# Altium footprint library CAMERON.PcbLib: 58 footprints (part 1 of 4)
Each footprint in its own frame and in the unit in brackets; x right, y up, seen from the top. Pads: shape width x height; smd on the part's side, far side on the other; paste and mask are expansions set on the pad; w line width, h text height; cw(c..) or ccw(c..) is an arc to the next point about the centre after c.
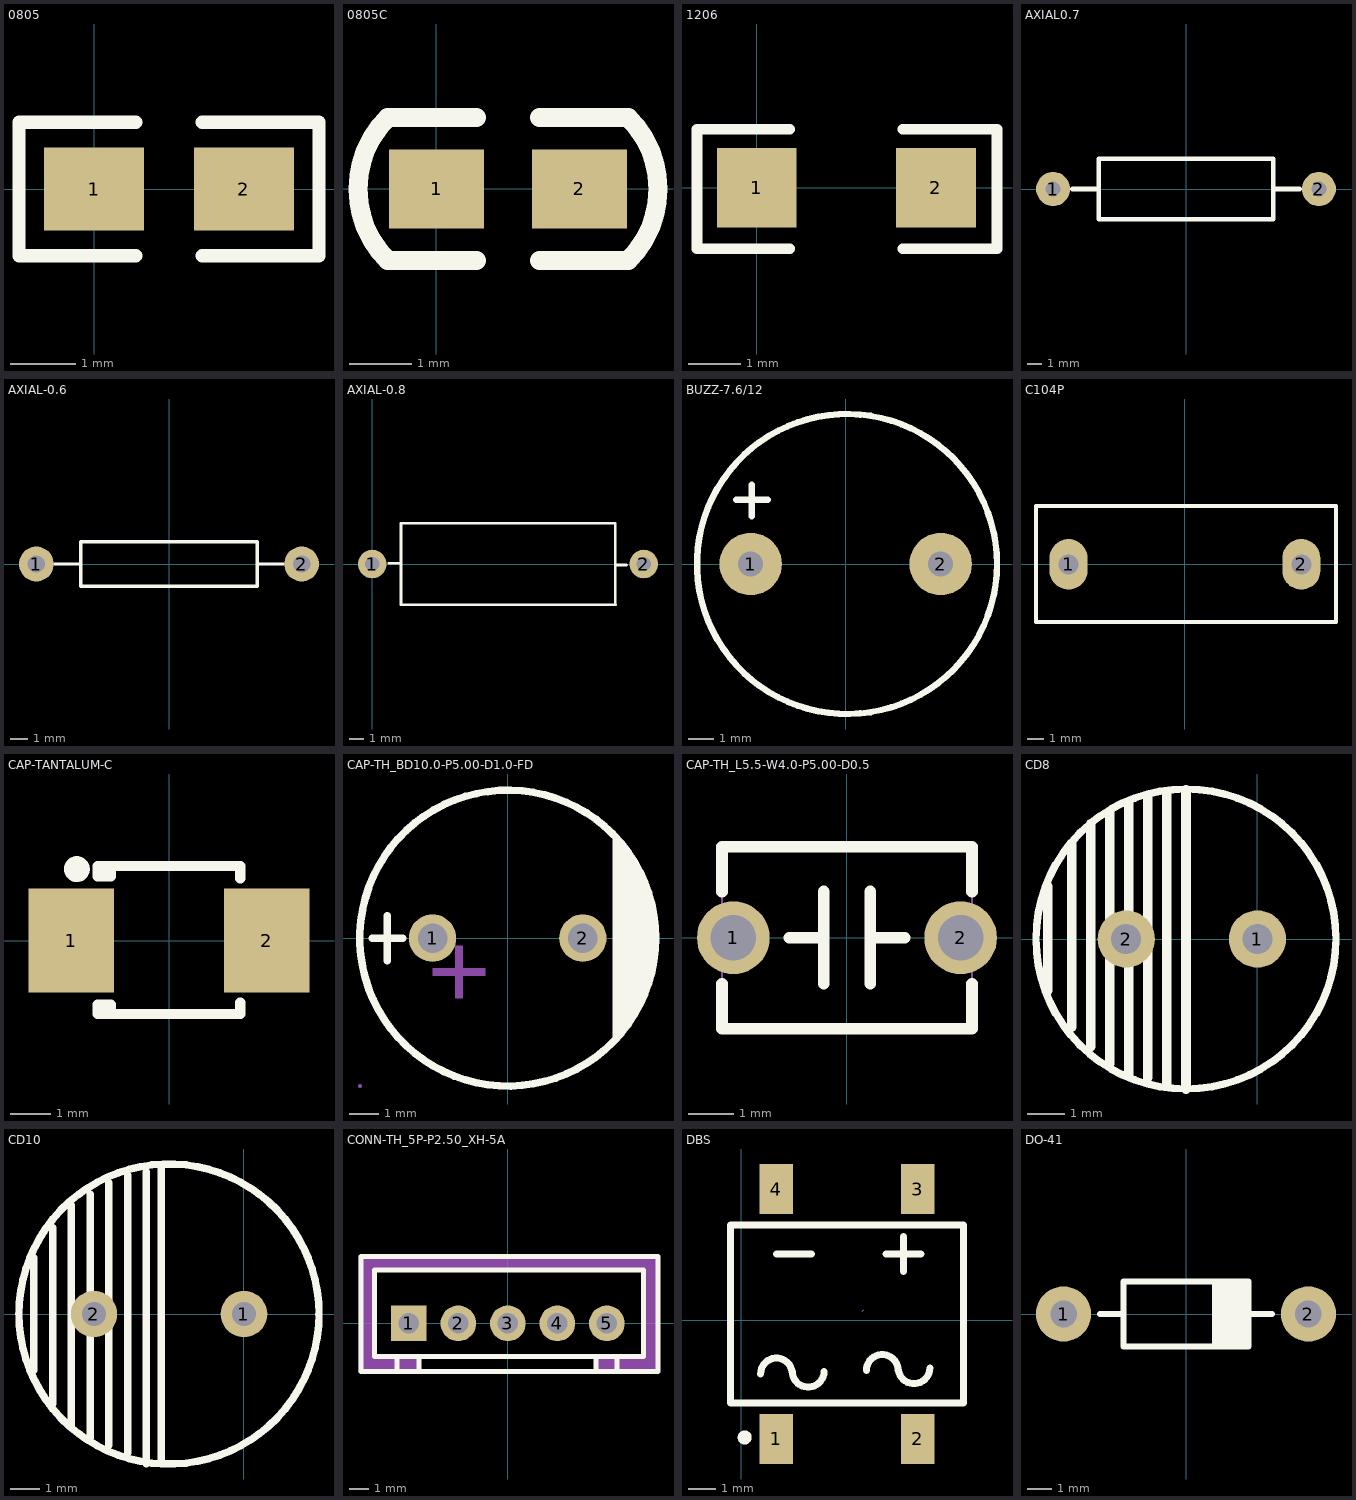
[diagram p0: the footprints below, top view; thin cyan lines are the x and y axes]

## 0805 [mil]
pads (2):
  rect 60x50 smd: 1(0,0) 2(90,0)
Top Overlay:
  lines w8: 25,-40 -45,-40 -45,40 25,40 ; 65,-40 135,-40 135,40 65,40

## 0805C [mil]
pads (2):
  rect 60x50 smd: 1(0.16,0) 2(90.16,0)
Top Overlay:
  lines w12: 25.16,-45 -30.84,-45 cw(c14.16,0) -30.84,45 25.16,45 ; 65.16,-45 121.16,-45 ccw(c76.16,0) 121.16,45 65.16,45

## 1206 [mil]
pads (2):
  rect 60x60 smd: 1(0,0) 2(135,0)
Top Overlay:
  lines w8: 25,-46 -45,-46 -45,44 25,44 ; 110,-46 181,-46 181,44 110,44

## AXIAL0.7 [mil]
pads (2):
  round 90 hole 39.37: 1(-350,0) 2(350,0)
Top Overlay:
  lines w12: -300,0 -230,0 ; 230,0 300,0 ; -230,-80 230,-80 230,80 -230,80 -230,-80

## AXIAL-0.6 [mm]
height 2.54
pads (2):
  round 2 hole 1: 1(-7.62,0) 2(7.62,0)
Top Overlay:
  lines w0.2: -6.604,0 -5.08,0 ; 5.08,0 6.604,0 ; -5.08,-1.27 -5.08,1.27 5.08,1.27 5.08,-1.27 -5.08,-1.27

## AXIAL-0.8 [mm]
pads (2):
  round 2 hole 1: 1(0,0) 2(19,0)
Top Overlay:
  lines w0.2: 1.17,0.056 1.932,0.056 ; 17.005,-2.855 17.005,2.86 2.019,2.86 2.019,-2.855 17.019,-2.855 ; 17.045,-0.071 17.807,-0.071

## BUZZ-7.6/12 [mm]
height 7.5
pads (2):
  round 2.5 hole 1: 1(-3.8,0) 2(3.8,0)
Top Overlay:
  circle w0.254: c0.051,0 r6
  lines w0.254: -4.38,2.57 -3.12,2.57 ; -3.76,1.91 -3.76,3.17

## C104P [mm]
pads (2):
  oval 2.286x3.048 hole 1.2: 1(-7,0) 2(7,0)
Top Overlay:
  lines w0.254: -8.96,3.5 -8.96,-3.465 9.086,-3.465 9.086,3.5 ; -8.96,3.505 9.086,3.505

## CAP-TANTALUM-C [mm]
height 1.9
pads (2):
  rect 2.1x2.56 smd: 1(-2.4,0) 2(2.4,0)
Top Overlay:
  circle w0.381: c-2.261,1.753 r0.127
  lines w0.254: -1.6,-1.575 -1.75,-1.725 -1.75,-1.803 ; -1.6,1.575 -1.6,1.6 ; -1.422,-1.753 -1.422,-1.575 -1.75,-1.575 -1.75,-1.803 ; -1.422,1.702 -1.422,1.575 -1.75,1.575 -1.75,1.829 1.75,1.829 1.75,1.524 ; 1.75,-1.524 1.75,-1.803 -1.75,-1.803

## CAP-TH_BD10.0-P5.00-D1.0-FD [mm]
pads (2):
  round 1.6 hole 1: 1(-2.54,0) 2(2.54,0)
Top Overlay:
  circle w0.254: c0,0 r5
  region: 3.556,3.556 3.556,-3.556 4.318,-2.54 4.826,-1.016 5.08,0.508 4.826,1.524
  lines w0.254: -4.572,0 -3.556,0 ; -4.064,-0.762 -4.064,0.762
Mechanical 6:
  region: -2.54,-1.016 -0.762,-1.016 -0.762,-1.27 -2.54,-1.27
  region: -1.778,-0.762 -1.778,-2.032 -1.524,-2.032 -1.524,-0.254 -1.778,-0.254
Mechanical 15:
  region: -4.94,-5 -4.94,-4.975 -4.975,-4.94 -5.025,-4.94 -5.06,-4.975 -5.06,-5 -5.06,-5.025 -5.025,-5.06 -4.975,-5.06 -4.94,-5.025 -4.94,-5
  region: 2.84,0 2.839,0.059 2.792,0.167 2.708,0.25 2.599,0.294 2.481,0.294 2.372,0.25 2.288,0.167 2.241,0.059 2.24,0 2.241,-0.059 2.288,-0.167 2.372,-0.25 2.481,-0.294 2.599,-0.294 2.708,-0.25 2.792,-0.167 2.839,-0.059 2.84,0
  region: -2.24,0 -2.241,0.059 -2.288,0.167 -2.372,0.25 -2.481,0.294 -2.599,0.294 -2.708,0.25 -2.792,0.167 -2.839,0.059 -2.84,0 -2.839,-0.059 -2.792,-0.167 -2.708,-0.25 -2.599,-0.294 -2.481,-0.294 -2.372,-0.25 -2.288,-0.167 -2.241,-0.059 -2.24,0
  lines w0.051: -5,0 cw(c0,0) 5,0 cw(c0,0) -5,0

## CAP-TH_L5.5-W4.0-P5.00-D0.5 [mm]
pads (2):
  round 1.6 hole 1: 1(-2.5,0) 2(2.5,0)
Top Overlay:
  lines w0.254: -2.75,-1.009 -2.75,-2 2.75,-2 2.75,-1.009 ; -2.75,1.009 -2.75,2 2.75,2 2.75,1.009 ; -1.27,-0.002 -0.508,-0.002 ; -0.508,-1.016 -0.508,1.016 ; 0.508,-1.016 0.508,1.016 ; 0.508,-0.002 1.27,-0.002
Mechanical 15:
  region: -2.69,-2 -2.691,-1.976 -2.726,-1.943 -2.774,-1.943 -2.809,-1.976 -2.81,-2 -2.809,-2.024 -2.774,-2.057 -2.726,-2.057 -2.691,-2.024
  region: -2.25,0 -2.25,0.05 -2.288,0.142 -2.358,0.212 -2.45,0.25 -2.55,0.25 -2.642,0.212 -2.712,0.142 -2.75,0.05 -2.75,0 -2.75,-0.05 -2.712,-0.142 -2.642,-0.212 -2.55,-0.25 -2.45,-0.25 -2.358,-0.212 -2.288,-0.142 -2.25,-0.05
  region: 2.75,0 2.75,0.05 2.712,0.142 2.642,0.212 2.55,0.25 2.45,0.25 2.358,0.212 2.288,0.142 2.25,0.05 2.25,0 2.25,-0.05 2.288,-0.142 2.358,-0.212 2.45,-0.25 2.55,-0.25 2.642,-0.212 2.712,-0.142 2.75,-0.05
  lines w0.051: -2.75,-2 -2.75,2 2.75,2 2.75,-2 -2.75,-2

## CD8 [mil]
pads (2):
  round 60 hole 31.5: 1(0,0) 2(-137.8,0)
Top Overlay:
  circle w7.87: c-75,0 r157.48
  lines w10: -220,-54.13 -220,55.12 ; -195,-92.52 -195,100.39 ; -175,-113.19 -175,121.06 ; -155,-130.91 -155,133.86 ; -135,-143.7 -135,141.73 ; -115,-145.67 -115,149.61 ; -95,-154.53 -95,153.54 ; -75,-157.48 -75,156.5

## CD10 [mil]
pads (2):
  round 62 hole 31.5: 1(0,0) 2(-200,0)
Top Overlay:
  circle w10: c-100,0 r200
  lines w10: -280,-75 -280,75 ; -255,-120 -255,115 ; -230,-150 -230,145 ; -205,-165 -205,160 ; -180,-175 -180,175 ; -155,-185 -155,185 ; -130,-200 -130,190 ; -110,-200 -110,195

## CONN-TH_5P-P2.50_XH-5A [mm]
pads (5):
  rect 1.8x1.8 hole 1.05: 1(-5,0)
  round 1.8 hole 1.05: 2(-2.498,0) 3(0.001,0) 4(2.501,0) 5(5,0)
Top Overlay:
  lines w0.254: -7.416,-2.432 -7.416,3.368 7.58,3.368 ; -7.413,-2.438 7.583,-2.438 ; -6.731,-1.676 -6.731,2.692 6.858,2.692 6.858,-1.676 -6.698,-1.676 ; -5.58,-2.438 -5.58,-1.676 ; -4.47,-2.438 -4.47,-1.803 ; 4.453,-2.438 4.453,-1.676 ; 5.52,-2.438 5.52,-1.676 ; 7.573,-2.438 7.573,3.353
Mechanical 6:
  region: 4.42,-1.727 6.807,-1.727 6.858,-1.676 6.858,2.692 -6.731,2.692 -6.731,-1.643 -6.698,-1.676 -4.597,-1.676 -4.47,-1.676 -4.47,-1.803 -4.47,-2.438 -7.413,-2.438 -7.413,3.365 -7.416,3.368 7.558,3.368 7.573,3.353 7.573,-2.429 7.583,-2.438 4.394,-2.438
Mechanical 15:
  region: -7.44,-2.4 -7.44,-2.375 -7.475,-2.34 -7.525,-2.34 -7.56,-2.375 -7.56,-2.4 -7.56,-2.425 -7.525,-2.46 -7.475,-2.46 -7.44,-2.425
  region: 4.675,0.325 5.325,0.325 5.325,-0.325 4.675,-0.325
  region: 2.176,0.325 2.826,0.325 2.826,-0.325 2.176,-0.325
  region: -0.324,0.325 0.326,0.325 0.326,-0.325 -0.324,-0.325
  region: -2.823,0.325 -2.173,0.325 -2.173,-0.325 -2.823,-0.325
  region: -5.325,0.325 -4.675,0.325 -4.675,-0.325 -5.325,-0.325
  lines w0.051: -7.5,-2.4 7.5,-2.4 7.5,3.4 -7.5,3.4 -7.5,-2.4

## DBS [mm]
pads (4):
  rect 1.2x1.8 smd: 1(1.264,-4.282) 2(6.364,-4.282) 3(6.364,4.718) 4(1.264,4.718)
Top Overlay:
  circle w0.254: c0.131,-4.227 r0.127
  lines w0.254: 0.702,-1.941 cw(c1.274,-1.941) 1.845,-1.941 ; 1.274,2.377 2.544,2.377 ; 1.845,-1.846 ccw(c2.417,-1.846) 2.988,-1.846 ; 4.512,-1.814 cw(c5.084,-1.814) 5.655,-1.814 ; 5.211,2.377 6.481,2.377 ; 5.655,-1.719 ccw(c6.227,-1.719) 6.798,-1.719 ; 5.846,1.742 5.846,3.012 ; -0.386,-2.982 -0.386,3.418 8.014,3.418 8.014,-2.982 -0.386,-2.982
Mechanical 15:
  lines w0.003: 4.36,0.32 4.411,0.37

## DO-41 [mil]
height 106.3
pads (2):
  round 90 hole 43.31: 1(-200,0) 2(200,0)
Top Overlay:
  lines w10: -140.16,0 -102.36,0 ; 47.24,-53.15 47.24,53.15 ; 55.12,-53.15 55.12,53.15 ; 62.99,-53.15 62.99,53.15 ; 70.87,-53.15 70.87,53.15 ; 78.74,-53.15 78.74,53.15 ; 86.61,-53.15 86.61,53.15 ; 94.49,-53.15 94.49,53.15 ; 102.36,0 140.16,0 ; -102.36,-53.15 102.36,-53.15 102.36,53.15 -102.36,53.15 -102.36,-53.15